# Altium footprint library 74xx-little-de.PCBLIB: 22 footprints (part 2 of 2)
Each footprint in its own frame and in the unit in brackets; x right, y up, seen from the top. Pads: shape width x height; smd on the part's side, far side on the other; paste and mask are expansions set on the pad; w line width, h text height; cw(c..) or ccw(c..) is an arc to the next point about the centre after c.
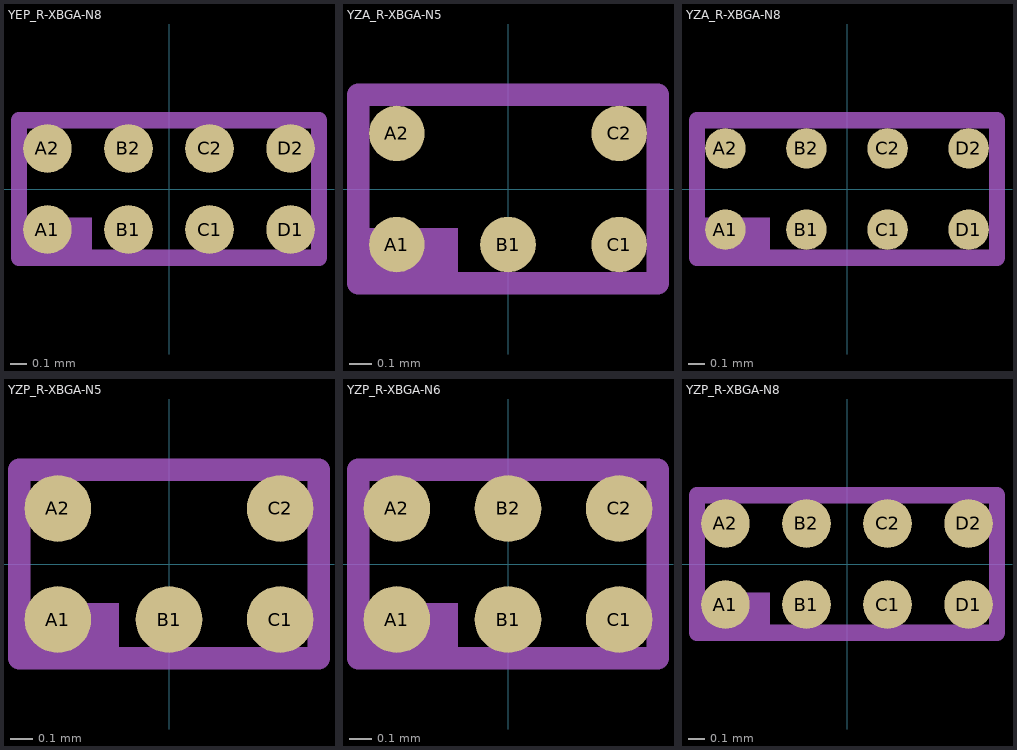
[diagram p1: the footprints below, top view; thin cyan lines are the x and y axes]

## YEP_R-XBGA-N8 [mm]
pads (8):
  rrect100% 0.3x0.3 smd paste-0.15 mask-0.15: A1(-0.75,-0.25) A2(-0.75,0.25) B1(-0.25,-0.25) B2(-0.25,0.25) C1(0.25,-0.25) C2(0.25,0.25) D1(0.75,-0.25) D2(0.75,0.25)
Top Solder:
  circle w0: c-0.75,-0.25 r0.175
  circle w0: c-0.25,-0.25 r0.175
  circle w0: c0.25,-0.25 r0.175
  circle w0: c0.25,0.25 r0.175
  circle w0: c-0.75,0.25 r0.175
  circle w0: c0.75,-0.25 r0.175
  circle w0: c0.75,0.25 r0.175
  circle w0: c-0.25,0.25 r0.175
Mechanical 2:
  rectangle: -0.55,-0.375 -0.475,-0.175
Mechanical 18:
  rectangle: -0.925,-0.4 -0.475,-0.175
  lines w0.102: -0.925,-0.425 0.925,-0.425 0.925,0.425 -0.925,0.425 -0.925,-0.425

## YZA_R-XBGA-N5 [mm]
pads (5):
  rrect100% 0.25x0.25 smd paste-0.125 mask-0.125: A1(-0.5,-0.25) A2(-0.5,0.25) B1(0,-0.25) C1(0.5,-0.25) C2(0.5,0.25)
Top Solder:
  circle w0: c-0.5,-0.25 r0.175
  circle w0: c0,-0.25 r0.175
  circle w0: c0.5,-0.25 r0.175
  circle w0: c0.5,0.25 r0.175
  circle w0: c-0.5,0.25 r0.175
Mechanical 2:
  rectangle: -0.3,-0.375 -0.225,-0.175
Mechanical 18:
  rectangle: -0.675,-0.4 -0.225,-0.175
  lines w0.102: -0.675,-0.425 0.675,-0.425 0.675,0.425 -0.675,0.425 -0.675,-0.425

## YZA_R-XBGA-N8 [mm]
pads (8):
  rrect100% 0.25x0.25 smd paste-0.125 mask-0.125: A1(-0.75,-0.25) A2(-0.75,0.25) B1(-0.25,-0.25) B2(-0.25,0.25) C1(0.25,-0.25) C2(0.25,0.25) D1(0.75,-0.25) D2(0.75,0.25)
Top Solder:
  circle w0: c-0.75,-0.25 r0.175
  circle w0: c-0.25,-0.25 r0.175
  circle w0: c0.25,-0.25 r0.175
  circle w0: c0.25,0.25 r0.175
  circle w0: c-0.75,0.25 r0.175
  circle w0: c0.75,-0.25 r0.175
  circle w0: c0.75,0.25 r0.175
  circle w0: c-0.25,0.25 r0.175
Mechanical 2:
  rectangle: -0.55,-0.375 -0.475,-0.175
Mechanical 18:
  rectangle: -0.925,-0.4 -0.475,-0.175
  lines w0.102: -0.925,-0.425 0.925,-0.425 0.925,0.425 -0.925,0.425 -0.925,-0.425

## YZP_R-XBGA-N5 [mm]
pads (5):
  rrect100% 0.3x0.3 smd paste-0.15 mask-0.15: A1(-0.5,-0.25) A2(-0.5,0.25) B1(0,-0.25) C1(0.5,-0.25) C2(0.5,0.25)
Top Solder:
  circle w0: c-0.5,-0.25 r0.175
  circle w0: c0,-0.25 r0.175
  circle w0: c0.5,-0.25 r0.175
  circle w0: c0.5,0.25 r0.175
  circle w0: c-0.5,0.25 r0.175
Mechanical 2:
  rectangle: -0.3,-0.375 -0.225,-0.175
Mechanical 18:
  rectangle: -0.675,-0.4 -0.225,-0.175
  lines w0.102: -0.675,-0.425 0.675,-0.425 0.675,0.425 -0.675,0.425 -0.675,-0.425

## YZP_R-XBGA-N6 [mm]
pads (6):
  rrect100% 0.3x0.3 smd paste-0.15 mask-0.15: A1(-0.5,-0.25) A2(-0.5,0.25) B1(0,-0.25) B2(0,0.25) C1(0.5,-0.25) C2(0.5,0.25)
Top Solder:
  circle w0: c-0.5,-0.25 r0.175
  circle w0: c0,-0.25 r0.175
  circle w0: c0.5,-0.25 r0.175
  circle w0: c0.5,0.25 r0.175
  circle w0: c0,0.25 r0.175
  circle w0: c-0.5,0.25 r0.175
Mechanical 2:
  rectangle: -0.3,-0.375 -0.225,-0.175
Mechanical 18:
  rectangle: -0.675,-0.4 -0.225,-0.175
  lines w0.102: -0.675,-0.425 0.675,-0.425 0.675,0.425 -0.675,0.425 -0.675,-0.425

## YZP_R-XBGA-N8 [mm]
pads (8):
  rrect100% 0.3x0.3 smd paste-0.15 mask-0.15: A1(-0.75,-0.25) A2(-0.75,0.25) B1(-0.25,-0.25) B2(-0.25,0.25) C1(0.25,-0.25) C2(0.25,0.25) D1(0.75,-0.25) D2(0.75,0.25)
Top Solder:
  circle w0: c-0.75,-0.25 r0.175
  circle w0: c-0.25,-0.25 r0.175
  circle w0: c0.25,-0.25 r0.175
  circle w0: c0.25,0.25 r0.175
  circle w0: c-0.75,0.25 r0.175
  circle w0: c0.75,-0.25 r0.175
  circle w0: c0.75,0.25 r0.175
  circle w0: c-0.25,0.25 r0.175
Mechanical 2:
  rectangle: -0.55,-0.375 -0.475,-0.175
Mechanical 18:
  rectangle: -0.925,-0.4 -0.475,-0.175
  lines w0.102: -0.925,-0.425 0.925,-0.425 0.925,0.425 -0.925,0.425 -0.925,-0.425